# EAGLE library part LSM303 (library template)
3-axis accelerometer and 3-axis magnetometer
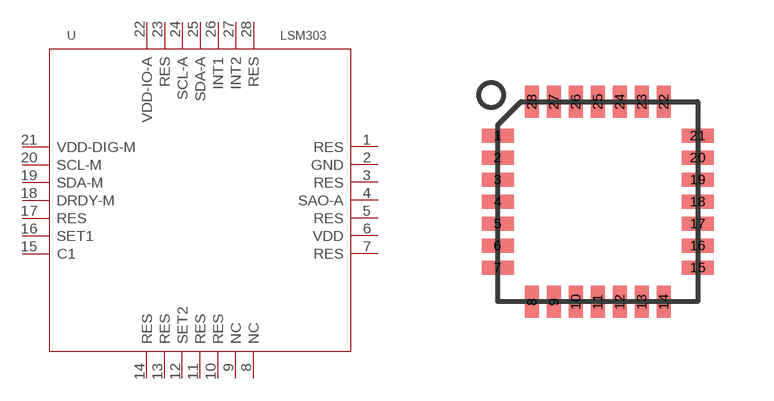
[diagram p23: symbol with the pads of LGA-28; footprint LGA-28]

Designator prefix U

## LSM303DLH  [LGA-28]
1  RES
2  GND
3  RES
4  SAO-A
5  RES
6  VDD
7  RES
8  NC
9  NC
10  RES
11  RES
12  SET2
13  RES
14  RES
15  C1
16  SET1
17  RES
18  DRDY-M
19  SDA-M
20  SCL-M
21  VDD-DIG-M
22  VDD-IO-A
23  RES
24  SCL-A
25  SDA-A
26  INT1
27  INT2
28  RES

## Footprint LGA-28 (pad centres in mm)
smd 0.8 x 0.35: 1 -2.503,1.65; 2 -2.503,1.1; 3 -2.503,0.55; 4 -2.503,0; 5 -2.503,-0.55; 6 -2.503,-1.1; 7 -2.503,-1.65; 15 2.503,-1.65; 16 2.503,-1.1; 17 2.503,-0.55; 18 2.503,0; 19 2.503,0.55; 20 2.503,1.1; 21 2.503,1.65
smd 0.35 x 0.8: 8 -1.65,-2.503; 9 -1.1,-2.503; 10 -0.55,-2.503; 11 0,-2.503; 12 0.55,-2.503; 13 1.1,-2.503; 14 1.65,-2.503; 22 1.65,2.503; 23 1.1,2.503; 24 0.55,2.503; 25 0,2.503; 26 -0.55,2.503; 27 -1.1,2.503; 28 -1.65,2.503